# EAGLE library part ADA4898-2 (library noah)
General-Purpose CMOS Rail-to-Rail Amplifiers Source: http://www.analog.com/static/imported-files/data_sheets/AD8541_8542_8544.pdf
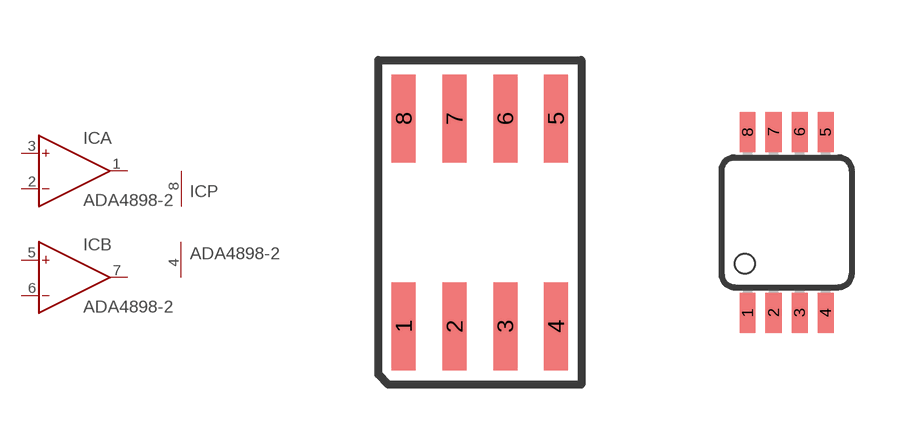
[diagram p26: symbol with the pads of SO8; footprints SO8, MSOP08]

Designator prefix IC; gates A=OP B=OP P=PWR+-

## ADA4898-2R (MF: ALTERA CORPORATION; MPN: AD8542ARZ-REEL; OC_FARNELL: 1424150; OC_NEWARK: 59K6827)  [SO8]
1  A:OUT  out
2  A:IN-  in
3  A:IN+  in
4  P:V-  pwr
5  B:IN+  in
6  B:IN-  in
7  B:OUT  out
8  P:V+  pwr

## ADA4898-2RM (MPN: AD8542ARZ; OC_FARNELL: 1464965; OC_NEWARK: 19M0965)  [MSOP08]
Pads as for SO8

## ADA4898-2RU (MF: ALTERA CORPORATION; MPN: AD8542ARUZ; OC_FARNELL: 1333256; OC_NEWARK: 88H0269)  [TSSOP8]
Pads as for SO8

## Footprint SO8 (pad centres in mm)
SMALL OUTLINE INTEGRATED CIRCUIT SOP-8L Source: http://www.diodes.com/datasheets/ds31262.pdf
smd 0.6 x 2.2: 1 -1.905,-2.6; 2 -0.635,-2.6; 3 0.635,-2.6; 4 1.905,-2.6; 5 1.905,2.6; 6 0.635,2.6; 7 -0.635,2.6; 8 -1.905,2.6

## Footprint MSOP08 (pad centres in mm)
8-Lead micro SO (RM-8) Source: http://www.analog.com/UploadedFiles/Data_Sheets/703465986AD8611_2_0.pdf
smd 0.4 x 1: 1 -0.976,-2.263; 2 -0.326,-2.263; 3 0.324,-2.263; 4 0.974,-2.263; 5 0.974,2.262; 6 0.324,2.262; 7 -0.326,2.262; 8 -0.976,2.262

## Footprint TSSOP8 (pad centres in mm)
8-Lead Thin Shrink Small Outline Package Source: http://www.analog.com/static/imported-files/data_sheets/AD8541_8542_8544.pdf
smd 0.9 x 0.35: 1 -2.875,0.975; 2 -2.875,0.325; 3 -2.875,-0.325; 4 -2.875,-0.975; 5 2.875,-0.975; 6 2.875,-0.325; 7 2.875,0.325; 8 2.875,0.975